# Altium schematic symbol library 595.SchLib: 1 symbol
Pins are listed as number, name and electrical type; pins without a type are passive.

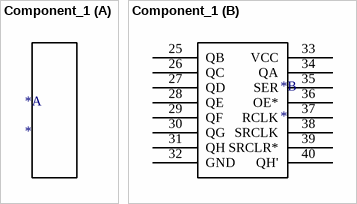
[diagram p0: symbol Component_1]

## Component_1
designator *
part B pins: 25 QB, 26 QC, 27 QD, 28 QE, 29 QF, 30 QG, 31 QH, 32 GND, 33 VCC, 34 QA, 35 SER, 36 OE*, 37 RCLK, 38 SRCLK, 39 SRCLR*, 40 QH'